# EAGLE library part MAX9600 (library QuantumOptics)
MAX9600, dual ECL comparator, 500pS, output latch, hysterisis control. If need same but PECL, use MAX9601.
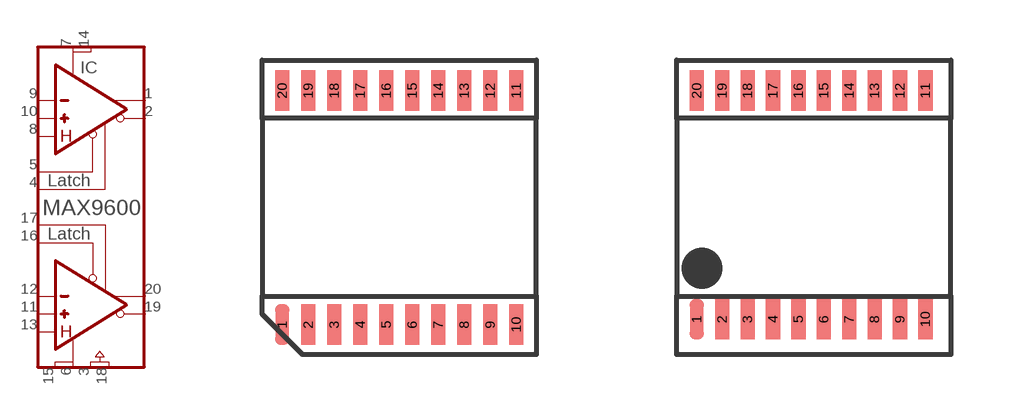
[diagram p31: symbol with the pads of TSSOP-20; footprints TSSOP-20, TSSOP-20B]

Designator prefix IC

## MAX9600EUP  [TSSOP-20]
1  QA  out
2  ~QA  out
3  GND1  in
4  LENA  in
5  ~LENA  in
6  VEE1  in
7  VCC1  in
8  HYSA  in
9  INA-  in
10  INA+  in
11  INB+  in
12  INB-  in
13  HYSB  in
14  VCC2  in
15  VEE2  in
16  ~LENB  in
17  LENB  in
18  GND2  in
19  ~QB  out
20  QB  out

## MAX9600EUP--0.025  [TSSOP-20B]
Pads as for TSSOP-20

## Footprint TSSOP-20 (pad centres in mm)
TSSOP-20, pins 0.65mm c-c spacing, nominal 6.4mm rows.
smd 0.356 x 1.016: 1 0,-5.85; 2 0.65,-5.85; 3 1.3,-5.85; 4 1.95,-5.85; 5 2.6,-5.85; 6 3.25,-5.85; 7 3.9,-5.85; 8 4.55,-5.85; 9 5.2,-5.85; 10 5.85,-5.85; 11 5.85,0; 12 5.2,0; 13 4.55,0; 14 3.9,0; 15 3.25,0; 16 2.6,0; 17 1.95,0; 18 1.3,0; 19 0.65,0; 20 0,0

## Footprint TSSOP-20B (pad centres in mm)
TSSOP-20 on 0.025" grid, pins should be 0.65mm c-c spacing, nominal 6.4mm rows but all snapped to 0.025" grid.
smd 0.356 x 1.016: 1 0,-5.715; 2 0.635,-5.715; 3 1.27,-5.715; 4 1.905,-5.715; 5 2.54,-5.715; 6 3.175,-5.715; 7 3.81,-5.715; 8 4.445,-5.715; 9 5.08,-5.715; 10 5.715,-5.715; 11 5.715,0; 12 5.08,0; 13 4.445,0; 14 3.81,0; 15 3.175,0; 16 2.54,0; 17 1.905,0; 18 1.27,0; 19 0.635,0; 20 0,0